# Altium footprint library testpad.PCBLIB: 42 footprints (part 3 of 3)
Each footprint in its own frame and in the unit in brackets; x right, y up, seen from the top. Pads: shape width x height; smd on the part's side, far side on the other; paste and mask are expansions set on the pad; w line width, h text height; cw(c..) or ccw(c..) is an arc to the next point about the centre after c.
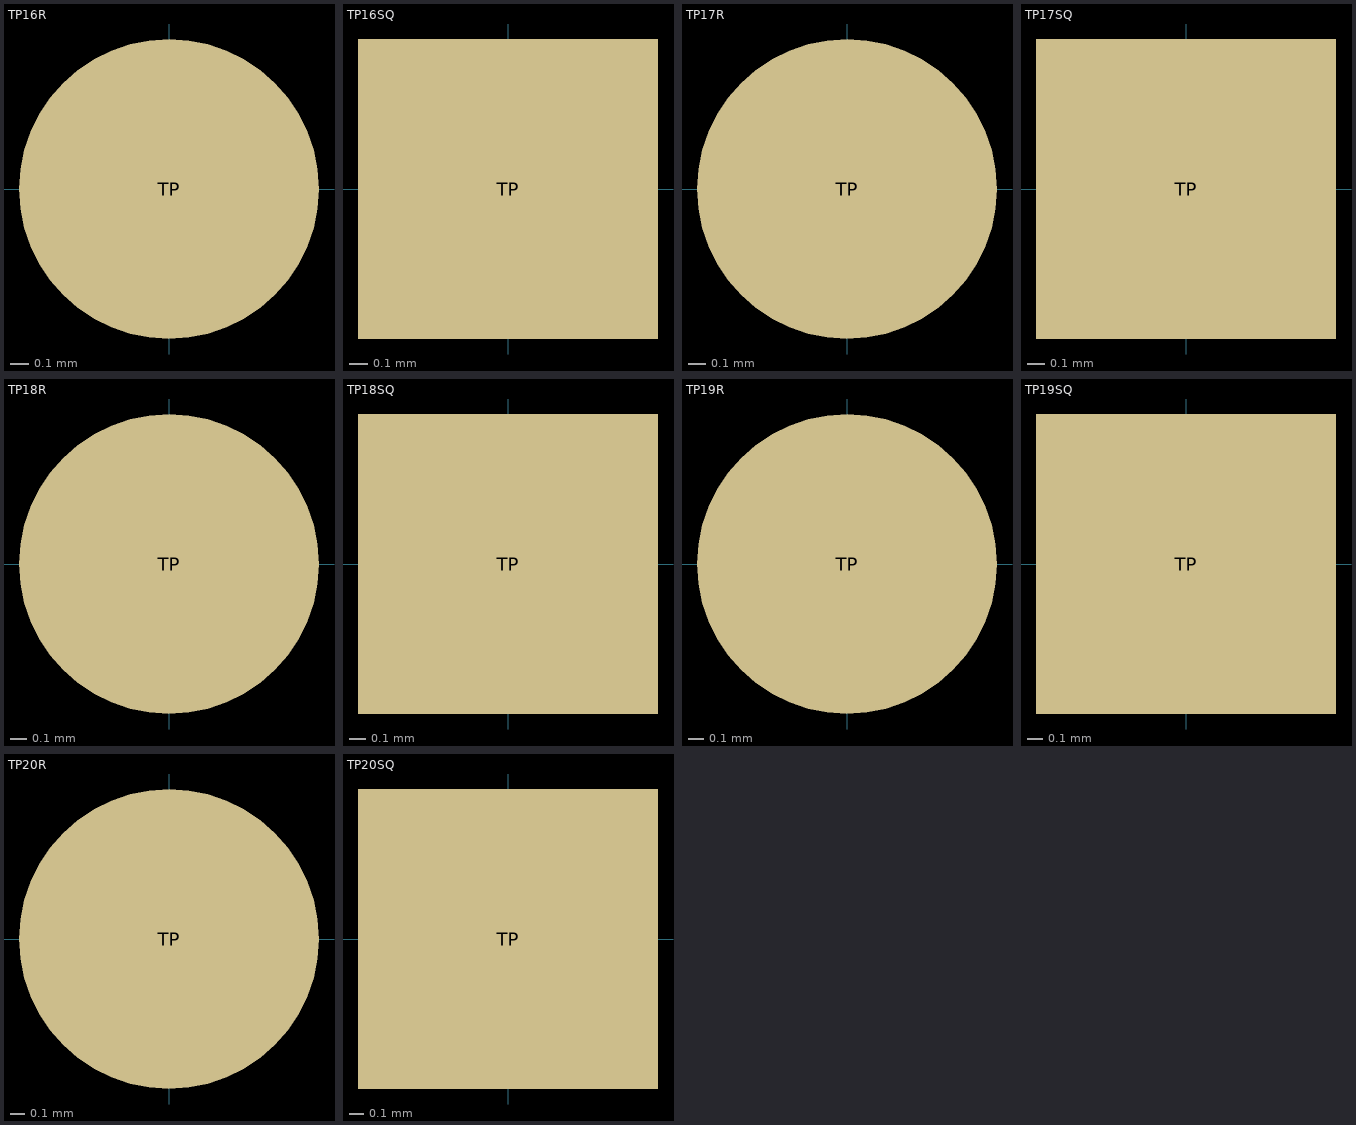
[diagram p2: the footprints below, top view; thin cyan lines are the x and y axes]

## TP16R [mil]
pads (1):
  rrect100% 63x63 smd: TP(0,0)
Mechanical 25:
  text ">TP_SIGNAL_NAME" at 0,-100 h62

## TP16SQ [mil]
pads (1):
  rect 63x63 smd: TP(0,0)
Mechanical 25:
  text ">TP_SIGNAL_NAME" at 0,-100 h62

## TP17R [mil]
pads (1):
  rrect100% 67x67 smd: TP(0,0)
Mechanical 25:
  text ">TP_SIGNAL_NAME" at 0,-100 h62

## TP17SQ [mil]
pads (1):
  rect 67x67 smd: TP(0,0)
Mechanical 25:
  text ">TP_SIGNAL_NAME" at 0,-100 h62

## TP18R [mil]
pads (1):
  rrect100% 71x71 smd: TP(0,0)
Mechanical 25:
  text ">TP_SIGNAL_NAME" at 0,-100 h62

## TP18SQ [mil]
pads (1):
  rect 71x71 smd: TP(0,0)
Mechanical 25:
  text ">TP_SIGNAL_NAME" at 0,-100 h62

## TP19R [mil]
pads (1):
  rrect100% 75x75 smd: TP(0,0)
Mechanical 25:
  text ">TP_SIGNAL_NAME" at 0,-100 h62

## TP19SQ [mil]
pads (1):
  rect 75x75 smd: TP(0,0)
Mechanical 25:
  text ">TP_SIGNAL_NAME" at 0,-100 h62

## TP20R [mil]
pads (1):
  rrect100% 79x79 smd: TP(0,0)
Mechanical 25:
  text ">TP_SIGNAL_NAME" at 0,-100 h62

## TP20SQ [mil]
pads (1):
  rect 79x79 smd: TP(0,0)
Mechanical 25:
  text ">TP_SIGNAL_NAME" at 0,-100 h62